# Altium integrated library ledmatrix.IntLib: 4 symbols
Pins are listed as number, name and electrical type; pins without a type are passive.

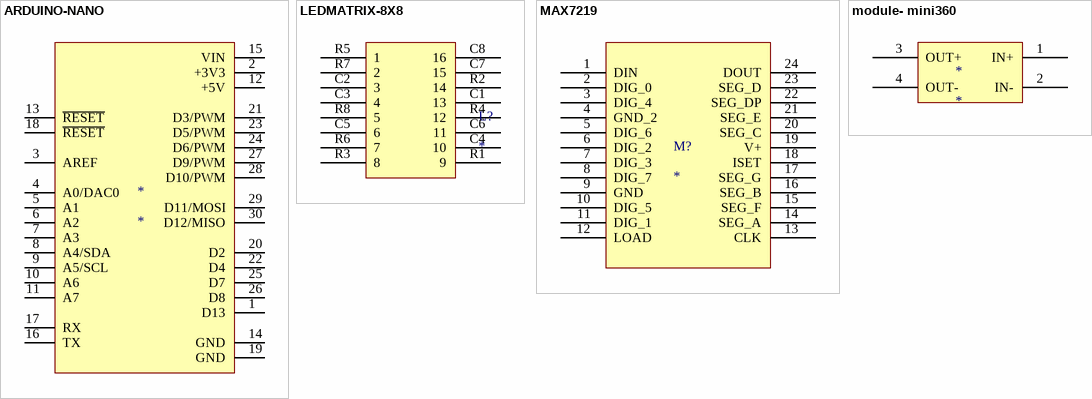
[diagram p0: symbols ARDUINO-NANO to module- mini360]

## ARDUINO-NANO
designator *
footprint ARDUINO-NANO
pins: 1 D13, 2 +3V3, 3 AREF, 4 A0/DAC0, 5 A1, 6 A2, 7 A3, 8 A4/SDA, 9 A5/SCL, 10 A6, 11 A7, 12 +5V, 13 ~{RESET}, 14 GND, 15 VIN, 16 TX, 17 RX, 18 ~{RESET}, 19 GND, 20 D2, 21 D3/PWM, 22 D4, 23 D5/PWM, 24 D6/PWM, 25 D7, 26 D8, 27 D9/PWM, 28 D10/PWM, 29 D11/MOSI, 30 D12/MISO

## LEDMATRIX-8X8
designator L?
footprint LEDMATRIX_8X8 (3mm)
pins: C1 13, C2 3, C3 4, C4 10, C5 6, C6 11, C7 15, C8 16, R1 9, R2 14, R3 8, R4 12, R5 1, R6 7, R7 2, R8 5

## MAX7219
designator M?
footprint MAX7219
pins: 1 DIN, 2 DIG_0, 3 DIG_4, 4 GND_2 (power), 5 DIG_6, 6 DIG_2, 7 DIG_3, 8 DIG_7, 9 GND (power), 10 DIG_5, 11 DIG_1, 12 LOAD, 13 CLK, 14 SEG_A, 15 SEG_F, 16 SEG_B, 17 SEG_G, 18 ISET, 19 V+ (power), 20 SEG_C, 21 SEG_E, 22 SEG_DP, 23 SEG_D, 24 DOUT

## module- mini360
designator *
footprint MODULE-MINI360
pins: 1 IN+, 2 IN-, 3 OUT+, 4 OUT-